# Altium schematic symbol library Connector - Terminal Block.SchLib: 68 symbols
Pins are listed as number, name and electrical type; pins without a type are passive.

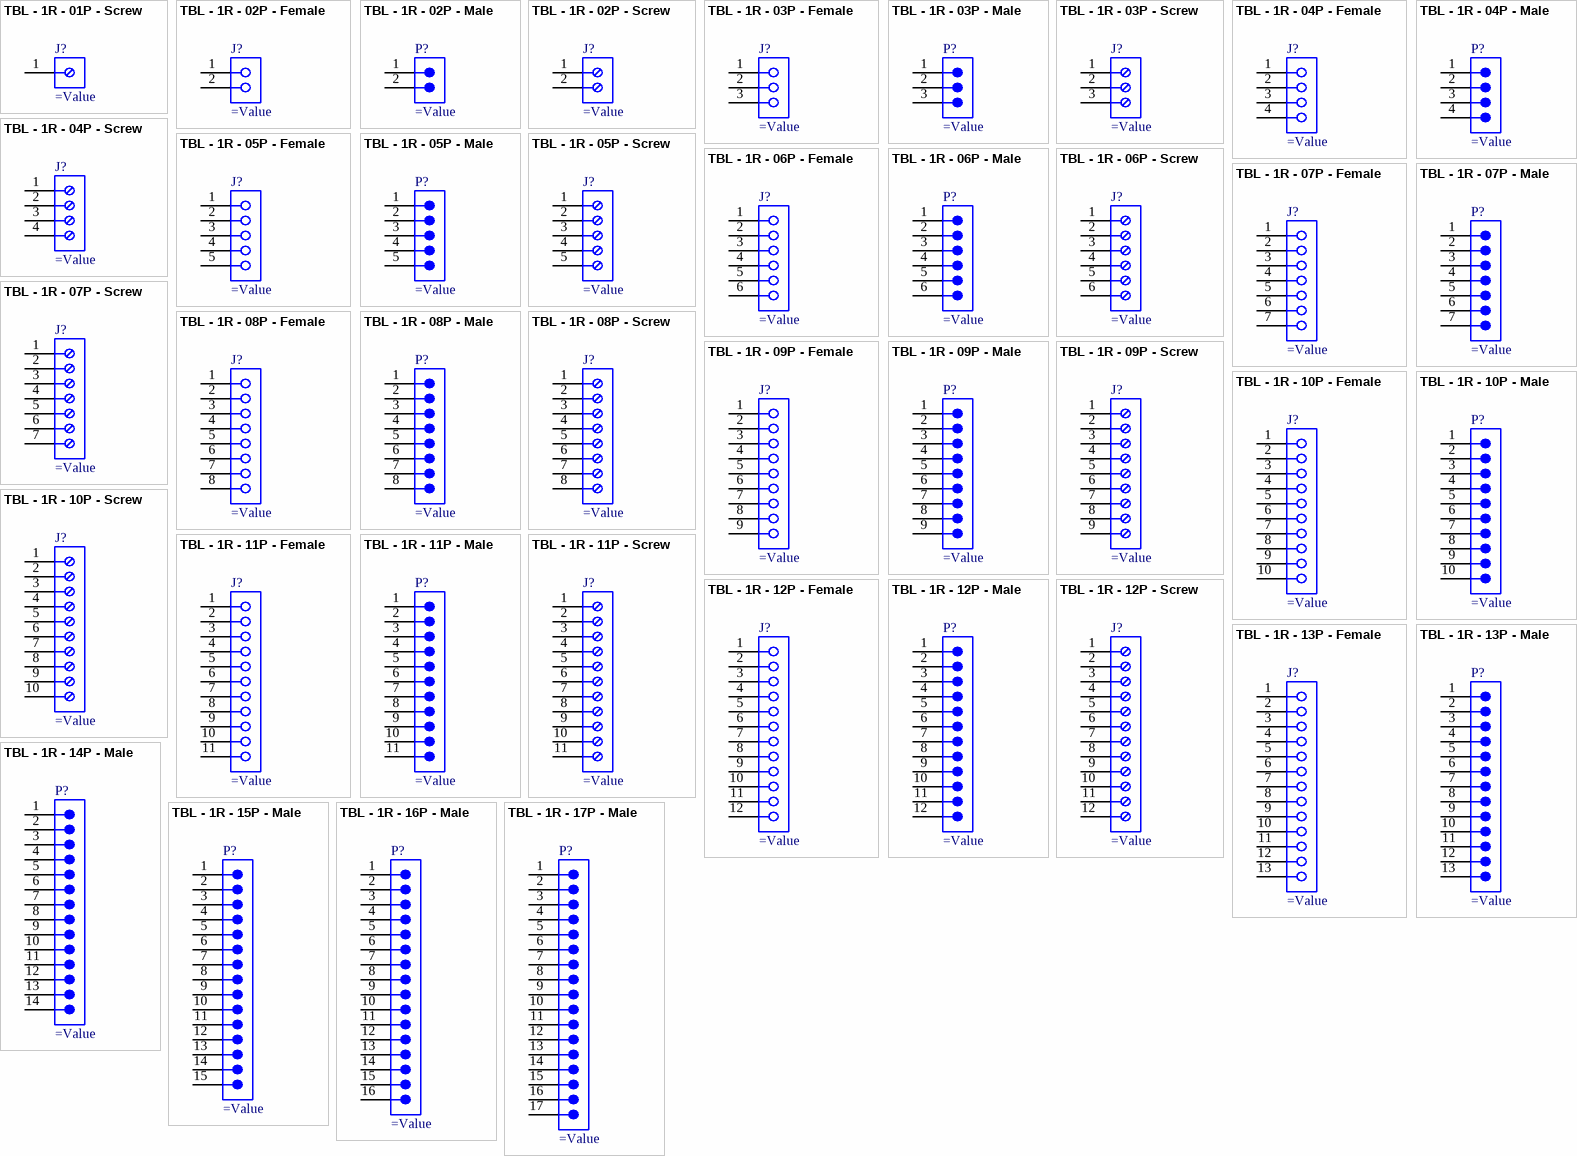
[diagram p0: symbols TBL - 1R - 01P - Screw to TBL - 1R - 17P - Male]

## TBL - 1R - 01P - Screw
designator J?
pins: 1

## TBL - 1R - 02P - Female
designator J?
pins: 1, 2

## TBL - 1R - 02P - Male
designator P?
pins: 1, 2

## TBL - 1R - 02P - Screw
designator J?
pins: 1, 2

## TBL - 1R - 03P - Female
designator J?
pins: 1, 2, 3

## TBL - 1R - 03P - Male
designator P?
pins: 1, 2, 3

## TBL - 1R - 03P - Screw
designator J?
pins: 1, 2, 3

## TBL - 1R - 04P - Female
designator J?
pins: 1, 2, 3, 4

## TBL - 1R - 04P - Male
designator P?
pins: 1, 2, 3, 4

## TBL - 1R - 04P - Screw
designator J?
pins: 1, 2, 3, 4

## TBL - 1R - 05P - Female
designator J?
pins: 1, 2, 3, 4, 5

## TBL - 1R - 05P - Male
designator P?
pins: 1, 2, 3, 4, 5

## TBL - 1R - 05P - Screw
designator J?
pins: 1, 2, 3, 4, 5

## TBL - 1R - 06P - Female
designator J?
pins: 1, 2, 3, 4, 5, 6

## TBL - 1R - 06P - Male
designator P?
pins: 1, 2, 3, 4, 5, 6

## TBL - 1R - 06P - Screw
designator J?
pins: 1, 2, 3, 4, 5, 6

## TBL - 1R - 07P - Female
designator J?
pins: 1, 2, 3, 4, 5, 6, 7

## TBL - 1R - 07P - Male
designator P?
pins: 1, 2, 3, 4, 5, 6, 7

## TBL - 1R - 07P - Screw
designator J?
pins: 1, 2, 3, 4, 5, 6, 7

## TBL - 1R - 08P - Female
designator J?
pins: 1, 2, 3, 4, 5, 6, 7, 8

## TBL - 1R - 08P - Male
designator P?
pins: 1, 2, 3, 4, 5, 6, 7, 8

## TBL - 1R - 08P - Screw
designator J?
pins: 1, 2, 3, 4, 5, 6, 7, 8

## TBL - 1R - 09P - Female
designator J?
pins: 1, 2, 3, 4, 5, 6, 7, 8, 9

## TBL - 1R - 09P - Male
designator P?
pins: 1, 2, 3, 4, 5, 6, 7, 8, 9

## TBL - 1R - 09P - Screw
designator J?
pins: 1, 2, 3, 4, 5, 6, 7, 8, 9

## TBL - 1R - 10P - Female
designator J?
pins: 1, 2, 3, 4, 5, 6, 7, 8, 9, 10

## TBL - 1R - 10P - Male
designator P?
pins: 1, 2, 3, 4, 5, 6, 7, 8, 9, 10

## TBL - 1R - 10P - Screw
designator J?
pins: 1, 2, 3, 4, 5, 6, 7, 8, 9, 10

## TBL - 1R - 11P - Female
designator J?
pins: 1, 2, 3, 4, 5, 6, 7, 8, 9, 10, 11

## TBL - 1R - 11P - Male
designator P?
pins: 1, 2, 3, 4, 5, 6, 7, 8, 9, 10, 11

## TBL - 1R - 11P - Screw
designator J?
pins: 1, 2, 3, 4, 5, 6, 7, 8, 9, 10, 11

## TBL - 1R - 12P - Female
designator J?
pins: 1, 2, 3, 4, 5, 6, 7, 8, 9, 10, 11, 12

## TBL - 1R - 12P - Male
designator P?
pins: 1, 2, 3, 4, 5, 6, 7, 8, 9, 10, 11, 12

## TBL - 1R - 12P - Screw
designator J?
pins: 1, 2, 3, 4, 5, 6, 7, 8, 9, 10, 11, 12

## TBL - 1R - 13P - Female
designator J?
pins: 1, 2, 3, 4, 5, 6, 7, 8, 9, 10, 11, 12, 13

## TBL - 1R - 13P - Male
designator P?
pins: 1, 2, 3, 4, 5, 6, 7, 8, 9, 10, 11, 12, 13

## TBL - 1R - 14P - Male
designator P?
pins: 1, 2, 3, 4, 5, 6, 7, 8, 9, 10, 11, 12, 13, 14

## TBL - 1R - 15P - Male
designator P?
pins: 1, 2, 3, 4, 5, 6, 7, 8, 9, 10, 11, 12, 13, 14, 15

## TBL - 1R - 16P - Male
designator P?
pins: 1, 2, 3, 4, 5, 6, 7, 8, 9, 10, 11, 12, 13, 14, 15, 16

## TBL - 1R - 17P - Male
designator P?
pins: 1, 2, 3, 4, 5, 6, 7, 8, 9, 10, 11, 12, 13, 14, 15, 16, 17

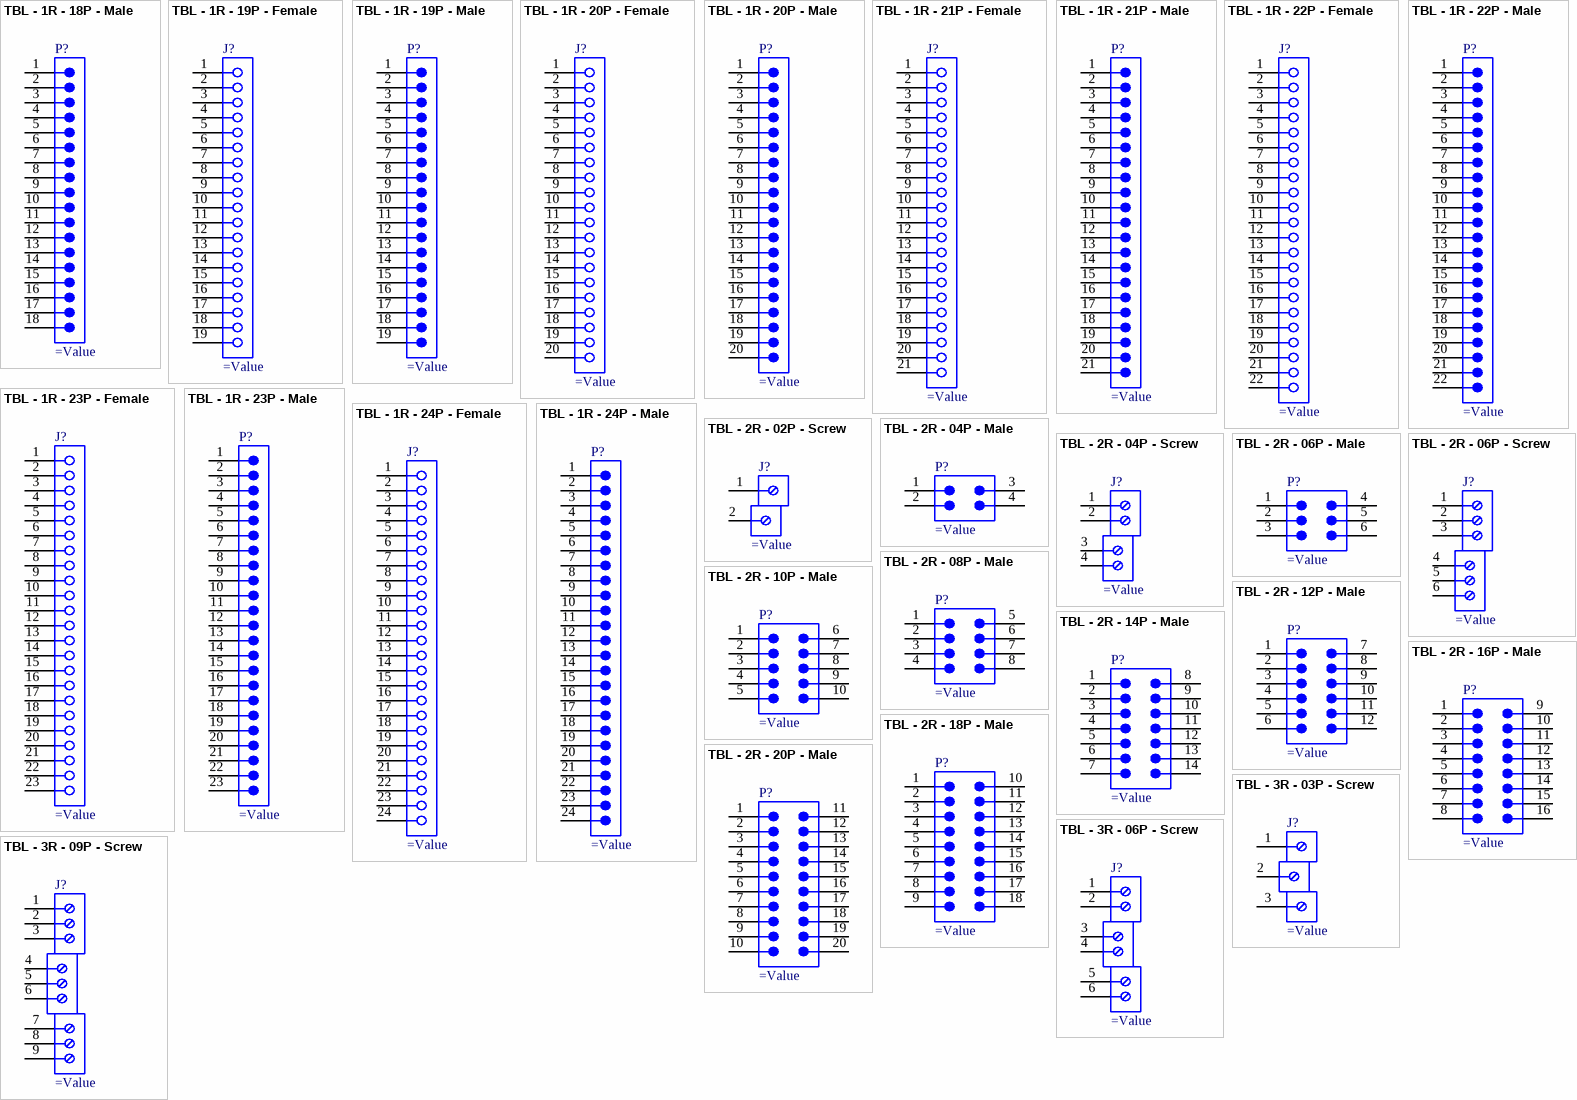
[diagram p1: symbols TBL - 1R - 18P - Male to TBL - 3R - 09P - Screw]

## TBL - 1R - 18P - Male
designator P?
pins: 1, 2, 3, 4, 5, 6, 7, 8, 9, 10, 11, 12, 13, 14, 15, 16, 17, 18

## TBL - 1R - 19P - Female
designator J?
pins: 1, 2, 3, 4, 5, 6, 7, 8, 9, 10, 11, 12, 13, 14, 15, 16, 17, 18, 19

## TBL - 1R - 19P - Male
designator P?
pins: 1, 2, 3, 4, 5, 6, 7, 8, 9, 10, 11, 12, 13, 14, 15, 16, 17, 18, 19

## TBL - 1R - 20P - Female
designator J?
pins: 1, 2, 3, 4, 5, 6, 7, 8, 9, 10, 11, 12, 13, 14, 15, 16, 17, 18, 19, 20

## TBL - 1R - 20P - Male
designator P?
pins: 1, 2, 3, 4, 5, 6, 7, 8, 9, 10, 11, 12, 13, 14, 15, 16, 17, 18, 19, 20

## TBL - 1R - 21P - Female
designator J?
pins: 1, 2, 3, 4, 5, 6, 7, 8, 9, 10, 11, 12, 13, 14, 15, 16, 17, 18, 19, 20, 21

## TBL - 1R - 21P - Male
designator P?
pins: 1, 2, 3, 4, 5, 6, 7, 8, 9, 10, 11, 12, 13, 14, 15, 16, 17, 18, 19, 20, 21

## TBL - 1R - 22P - Female
designator J?
pins: 1, 2, 3, 4, 5, 6, 7, 8, 9, 10, 11, 12, 13, 14, 15, 16, 17, 18, 19, 20, 21, 22

## TBL - 1R - 22P - Male
designator P?
pins: 1, 2, 3, 4, 5, 6, 7, 8, 9, 10, 11, 12, 13, 14, 15, 16, 17, 18, 19, 20, 21, 22

## TBL - 1R - 23P - Female
designator J?
pins: 1, 2, 3, 4, 5, 6, 7, 8, 9, 10, 11, 12, 13, 14, 15, 16, 17, 18, 19, 20, 21, 22, 23

## TBL - 1R - 23P - Male
designator P?
pins: 1, 2, 3, 4, 5, 6, 7, 8, 9, 10, 11, 12, 13, 14, 15, 16, 17, 18, 19, 20, 21, 22, 23

## TBL - 1R - 24P - Female
designator J?
pins: 1, 2, 3, 4, 5, 6, 7, 8, 9, 10, 11, 12, 13, 14, 15, 16, 17, 18, 19, 20, 21, 22, 23, 24

## TBL - 1R - 24P - Male
designator P?
pins: 1, 2, 3, 4, 5, 6, 7, 8, 9, 10, 11, 12, 13, 14, 15, 16, 17, 18, 19, 20, 21, 22, 23, 24

## TBL - 2R - 02P - Screw
designator J?
pins: 1, 2

## TBL - 2R - 04P - Male
designator P?
pins: 1, 2, 3, 4

## TBL - 2R - 04P - Screw
designator J?
pins: 1, 2, 3, 4

## TBL - 2R - 06P - Male
designator P?
pins: 1, 2, 3, 4, 5, 6

## TBL - 2R - 06P - Screw
designator J?
pins: 1, 2, 3, 4, 5, 6

## TBL - 2R - 08P - Male
designator P?
pins: 1, 2, 3, 4, 5, 6, 7, 8

## TBL - 2R - 10P - Male
designator P?
pins: 1, 2, 3, 4, 5, 6, 7, 8, 9, 10

## TBL - 2R - 12P - Male
designator P?
pins: 1, 2, 3, 4, 5, 6, 7, 8, 9, 10, 11, 12

## TBL - 2R - 14P - Male
designator P?
pins: 1, 2, 3, 4, 5, 6, 7, 8, 9, 10, 11, 12, 13, 14

## TBL - 2R - 16P - Male
designator P?
pins: 1, 2, 3, 4, 5, 6, 7, 8, 9, 10, 11, 12, 13, 14, 15, 16

## TBL - 2R - 18P - Male
designator P?
pins: 1, 2, 3, 4, 5, 6, 7, 8, 9, 10, 11, 12, 13, 14, 15, 16, 17, 18

## TBL - 2R - 20P - Male
designator P?
pins: 1, 2, 3, 4, 5, 6, 7, 8, 9, 10, 11, 12, 13, 14, 15, 16, 17, 18, 19, 20

## TBL - 3R - 03P - Screw
designator J?
pins: 1, 2, 3

## TBL - 3R - 06P - Screw
designator J?
pins: 1, 2, 3, 4, 5, 6

## TBL - 3R - 09P - Screw
designator J?
pins: 1, 2, 3, 4, 5, 6, 7, 8, 9